# Altium schematic symbol library ALTAIR_PD_MiscPower.SchLib: 4 symbols
Pins are listed as number, name and electrical type; pins without a type are passive.

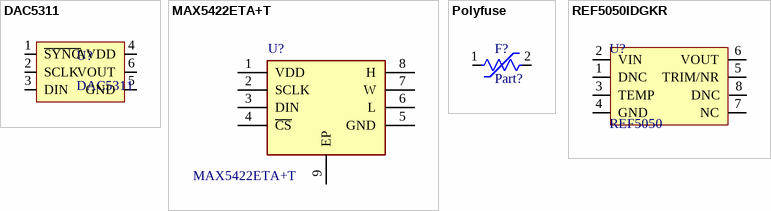
[diagram p0: symbols DAC5311 to REF5050IDGKR]

## DAC5311
designator U?
DAC 8bit 1 channel SPI Supply Reference Buffered Voltage
footprint SOT363-6 MID DENSITY (Technically non-IPC, adapted from TI datasheet for SOTx311 chips)
pins: 1 ~{SYNC}, 2 SCLK, 3 DIN, 4 AVDD, 5 GND, 6 VOUT

## MAX5422ETA+T
designator U?
Digipot 50k 1-Channel SPI 256-tap 8TDFN; Manufacturer_Name: Analog Devices; Datasheet Link: https://www.mouser.in/datasheet/2/256/MAX5422-MAX5424-1515775.pdf; Height: 0.8mm; Manufacturer_Part_Number: MAX5422ETA+T; Mouser Part Number: 700-MAX5422ETAT; Mouser Price/Stock: https://www.mouser.co.uk/ProductDetail/Analog-Devices-Maxim-Integrated/MAX5422ETA%2bT?qs=9Cj2FLRihcPrmM4L7Hu7wQ%3D%3D
footprint 8DFN 3x3MM EP IPC MID DENSITY (SON65P300X300X80-9N)
pins: 1 VDD, 2 SCLK, 3 DIN, 4 ~{CS}, 5 GND, 6 L, 7 W, 8 H, 9 EP

## Polyfuse
designator F?, comment Part?
PTC RESETTABLE FUSE
pins: 1, 2

## REF5050IDGKR
designator U?, comment REF5050
5V±0.05% Voltage Reference 8VSSOP; Manufacturer: Texas Instruments; Manufacturer Part Number: REF5050IDGKR; Number of Channels: 1; Max Input Voltage: 18V; Output Voltage: 5V; Min Input Voltage: 5.2V; Nominal Supply Current: 800uA; Tolerance: 0.05%; Max Output Current: 10mA; Operating Supply Current: 1.2mA; Temperature Coefficient: 3ppm/°C; Reference Type: Series; Output Type: Fixed; Supplier 1: Digi-Key; RoHS: Yes; Category: Voltage References; Stock 1: 2539; Pricing 1: 1=6.18000, 10=5.58100, 25=5.32200, 100=4.41320, 250=4.02380, 500=3.76420, 1000=3.45268 (USD); Case/Package: VSSOP; Number of Pins: 8; Weight: 0.00067oz; Min Operating Temperature: -40°C; Max Operating Temperature: 125°C; Packaging: Tape and Reel; Package Quantity: 1; Min Output Voltage: 5V; Output Current: 10mA; Max Output Voltage: 5V; Quiescent Current: 800uA; Radiation Hardening: No; Lead Free: Lead Free; ComponentLink1URL: https://datasheet.ciiva.com/2007/ref5020-2007532.pdf?src-supplier=Digi-Key; ComponentLink1Description: https://datasheet.ciiva.com/2007/ref5020-2007532.pdf?src-supplier=Digi-Key; ComponentLink2URL: https://datasheet.ciiva.com/14197/ref5050-14197084.pdf?src-supplier=Avnet; ComponentLink2Description: https://datasheet.ciiva.com/14197/ref5050-14197084.pdf?src-supplier=Avnet; ComponentLink3URL: https://datasheet.ciiva.com/2007/ref5020-2007533.pdf?src-supplier=Digi-Key; ComponentLink3Description: https://datasheet.ciiva.com/2007/ref5020-2007533.pdf?src-supplier=Digi-Key; ComponentLink4URL: https://datasheet.ciiva.com/2007/ref5020-2007534.pdf?src-supplier=Digi-Key; ComponentLink4Description: https://datasheet.ciiva.com/2007/ref5020-2007534.pdf?src-supplier=Digi-Key; ComponentLink5URL: https://datasheet.ciiva.com/41462/001014471-da-01-en-ic-vref-series-ref5050idgkr-vssop-8-tid-41462326.pdf?src-supplier=Conrad; ComponentLink5Description: https://datasheet.ciiva.com/41462/001014471-da-01-en-ic-vref-series-ref5050idgkr-vssop-8-tid-41462326.pdf?src-supplier=Conrad; Supplier Part Number 1: 296-27505-1-ND
footprint 8-TSOP 0.65MM PITCH 3MM WIDTH IPC MID DENSITY (TSOP65P490X110-8N)
pins: 1 DNC, 2 VIN, 3 TEMP, 4 GND, 5 TRIM/NR, 6 VOUT, 7 NC, 8 DNC